# Altium schematic symbol library PCM1808.SchLib: 1 symbol
Pins are listed as number, name and electrical type; pins without a type are passive.

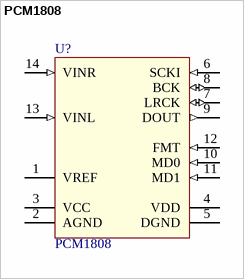
[diagram p0: symbol PCM1808]

## PCM1808
designator U?
PCM1808 Single-Ended, Analog-Input 24-Bit, 96-kHz Stereo ADC; value: PCM1808
footprint TSSOP-14 (Shrink Small Outline; 14 Leads; Body Width 4.4 mm; Pitch 0.65 mm)
pins: 1 VREF, 2 AGND (power), 3 VCC (power), 4 VDD (power), 5 DGND (power), 6 SCKI (in) "System clock input; 256 fS, 384 fS or 512 fS", 7 LRCK (io) "Audio-data latch-enable input or output", 8 BCK (io) "Audio-data bit-clock input or output", 9 DOUT (out) "Audio-data digital output", 10 MD0 (in), 11 MD1 (in), 12 FMT (in), 13 VINL (in), 14 VINR  (in)